# Altium schematic symbol library SnapEDAsch.SchLib: 1 symbol
Pins are listed as number, name and electrical type; pins without a type are passive.

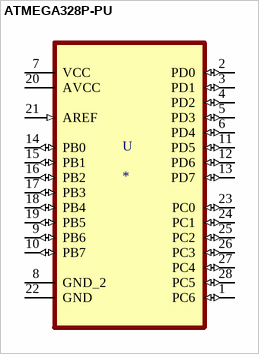
[diagram p0: symbol ATMEGA328P-PU]

## ATMEGA328P-PU
designator U
AVR AVRÂ® ATmega Microcontroller IC 8-Bit 20MHz 32KB _16K x 16_ FLASH 28-PDIP; MF: Microchip; MP: ATMEGA328P-PU; Package: PDIP-28 Microchip; Value: *; Price: None; SnapEDA_Link: https://www.snapeda.com/parts/ATMEGA328P-PU/Microchip/view-part/649476/?ref=snap; Availability: Unavailable
footprint DIP254P762X457-28
pins: 1 PC6 (io), 2 PD0 (io), 3 PD1 (io), 4 PD2 (io), 5 PD3 (io), 6 PD4 (io), 7 VCC (power), 8 GND_2, 9 PB6 (io), 10 PB7 (io), 11 PD5 (io), 12 PD6 (io), 13 PD7 (io), 14 PB0 (io), 15 PB1 (io), 16 PB2 (io), 17 PB3 (io), 18 PB4 (io), 19 PB5 (io), 20 AVCC (power), 21 AREF (in), 22 GND, 23 PC0 (io), 24 PC1 (io), 25 PC2 (io), 26 PC3 (io), 27 PC4 (io), 28 PC5 (io)